# Altium schematic symbol library STM32G474CEU6.SchLib: 1 symbol
Pins are listed as number, name and electrical type; pins without a type are passive.

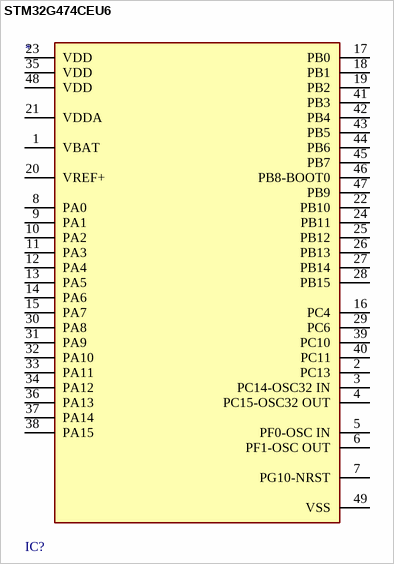
[diagram p0: symbol STM32G474CEU6]

## STM32G474CEU6
designator IC?
MAINSTREAM ARM CORTEX-M4 CORE WI
footprint FP-UFQFPN48-A0B9-IPC_B
footprint FP-UFQFPN48-A0B9-MFG
footprint FP-UFQFPN48-A0B9-IPC_A
footprint FP-UFQFPN48-A0B9-IPC_C
pins: 1 VBAT (power), 2 PC13, 3 PC14-OSC32 IN, 4 PC15-OSC32 OUT, 5 PF0-OSC IN, 6 PF1-OSC OUT, 7 PG10-NRST, 8 PA0, 9 PA1, 10 PA2, 11 PA3, 12 PA4, 13 PA5, 14 PA6, 15 PA7, 16 PC4, 17 PB0, 18 PB1, 19 PB2, 20 VREF+ (power), 21 VDDA (power), 22 PB10, 23 VDD (power), 24 PB11, 25 PB12, 26 PB13, 27 PB14, 28 PB15, 29 PC6, 30 PA8, 31 PA9, 32 PA10, 33 PA11, 34 PA12, 35 VDD (power), 36 PA13, 37 PA14, 38 PA15, 39 PC10, 40 PC11, 41 PB3, 42 PB4, 43 PB5, 44 PB6, 45 PB7, 46 PB8-BOOT0, 47 PB9, 48 VDD (power), 49 VSS (power)